# Altium schematic symbol library TEENSY_4.0.SchLib: 1 symbol
Pins are listed as number, name and electrical type; pins without a type are passive.

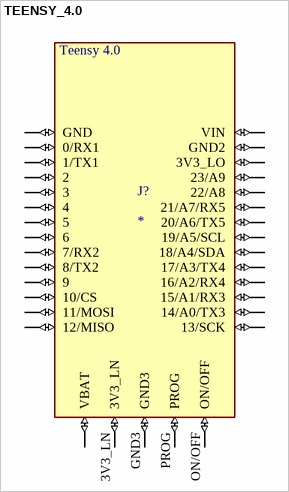
[diagram p0: symbol TEENSY_4.0]

## TEENSY_4.0
designator J?
MF: PJRC; MP: Teensy 4.0; SnapEDA_Link: https://www.snapeda.com/parts/Teensy%204.0/PJRC/view-part/?ref=snap; Package: None; Value: *; Check_prices: https://www.snapeda.com/parts/Teensy%204.0/PJRC/view-part/?ref=eda
footprint TEENSY_4.0
pins: 0/RX 0/RX1 (io), 1/TX 1/TX1 (io), 2 (io), 3/CANTX 3 (io), 3V3_LN (io), 3V3_LO (io), 4/CANRX 4 (io), 5 (io), 6 (io), 7 7/RX2 (io), 8 8/TX2 (io), 9/CS 9 (io), 10/CS (io), 11/MOSI (io), 12/MISO (io), 13/SCK (io), 14/A0 14/A0/TX3 (io), 15/A1 15/A1/RX3 (io), 16/A2 16/A2/RX4 (io), 17/A3 17/A3/TX4 (io), 18/A4/SDA (io), 19/A5/SCL (io), 20/A6 20/A6/TX5 (io), 21/A7 21/A7/RX5 (io), 22/A8 (io), 23/A9 (io), GND (io), GND2 (io), GND3 (io), ON/OFF (io), PROG (io), VBAT\ VBAT (io), VIN (io)